# Altium schematic symbol library DronePCB_Main.SchLib: 5 symbols
Pins are listed as number, name and electrical type; pins without a type are passive.

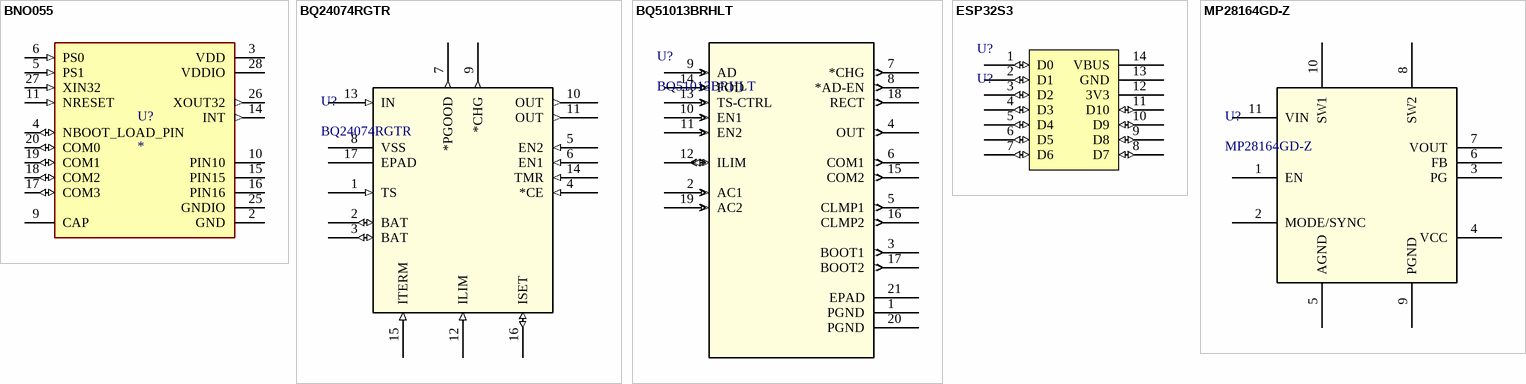
[diagram p0: symbols BNO055 to MP28164GD-Z]

## BNO055
designator U?
BNO055 9-axis Absolute Orientation Sensor ( SiP ) w/Sensors and Sensor Fusion; Package: None; Price: None; Value: *; MP: BNO055; Availability: Unavailable
footprint LGA28R50P4X10_380X520X100
pins: 2 GND (power), 3 VDD (power), 4 NBOOT_LOAD_PIN (io), 5 PS1 (in), 6 PS0 (in), 9 CAP, 10 PIN10 (power), 11 NRESET (in), 14 INT (out), 15 PIN15 (power), 16 PIN16 (power), 17 COM3 (io), 18 COM2 (io), 19 COM1 (io), 20 COM0 (io), 25 GNDIO (power), 26 XOUT32 (out), 27 XIN32 (in), 28 VDDIO (power)

## BQ24074RGTR
designator U?
Standalone 1-cell 1.5-A linear battery charger, Power Path, 4.2-V VBAT, 10.5-V OVP and 4.4-V VOUT 16-VQFN -40 to 85; Manufacturer_Name: Texas Instruments; Copyright: Copyright (C) 2026 Ultra Librarian. All rights reserved.; Manufacturer_Part_Number: BQ24074RGTR; RefDes: RefDes; Type: Type
footprint RGT16_1P7X1P7
pins: 1 TS (in), 2 BAT (io), 3 BAT (io), 4 *CE (in), 5 EN2 (in), 6 EN1 (in), 7 *PGOOD (out), 8 VSS (power), 9 *CHG (out), 10 OUT (out), 11 OUT (out), 12 ILIM (in), 13 IN (in), 14 TMR (in), 15 ITERM (in), 16 ISET (io), 17 EPAD (power)

## BQ51013BRHLT
designator U?
WPC 1.1 Compatible Fully integrated Wireless power Receiver IC 20-VQFN 0 to 125; Manufacturer_Name: Texas Instruments; Copyright: Copyright (C) 2026 Ultra Librarian. All rights reserved.; Manufacturer_Part_Number: BQ51013BRHLT; RefDes: RefDes; Type: Type
footprint RHL20_2P05X3P05
pins: 1 PGND (power), 2 AC1 (in), 3 BOOT1 (out), 4 OUT (out), 5 CLMP1 (out), 6 COM1 (out), 7 *CHG (out), 8 *AD-EN (out), 9 AD (in), 10 EN1 (in), 11 EN2 (in), 12 ILIM (io), 13 TS-CTRL (in), 14 FOD (in), 15 COM2 (out), 16 CLMP2 (out), 17 BOOT2 (out), 18 RECT (out), 19 AC2 (in), 20 PGND (power), 21 EPAD

## ESP32S3
designator U?, comment U?
pins: 1 D0 (io), 2 D1 (io), 3 D2 (io), 4 D3 (io), 5 D4 (io), 6 D5 (io), 7 D6 (io), 8 D7 (io), 9 D8 (io), 10 D9 (io), 11 D10 (io), 12 3V3 (power), 13 GND (power), 14 VBUS (power)

## MP28164GD-Z
designator U?
High-Efficiency Single-Inductor Buck-Boost Converter with 4.2A Switches; Manufacturer_Name: Monolithic Power Systems; Copyright: Copyright (C) 2025 Ultra Librarian. All rights reserved.; Manufacturer_Part_Number: MP28164GD-Z; RefDes: RefDes; Type: Type
footprint QFN-11_MP28164_MNP
pins: 1 EN, 2 MODE/SYNC, 3 PG, 4 VCC (power), 5 AGND (power), 6 FB, 7 VOUT (power), 8 SW2, 9 PGND (power), 10 SW1, 11 VIN (power)